# Altium footprint library TI HDC1080.PcbLib: 1 footprints
Each footprint in its own frame and in the unit in brackets; x right, y up, seen from the top. Pads: shape width x height; smd on the part's side, far side on the other; paste and mask are expansions set on the pad; w line width, h text height; cw(c..) or ccw(c..) is an arc to the next point about the centre after c.
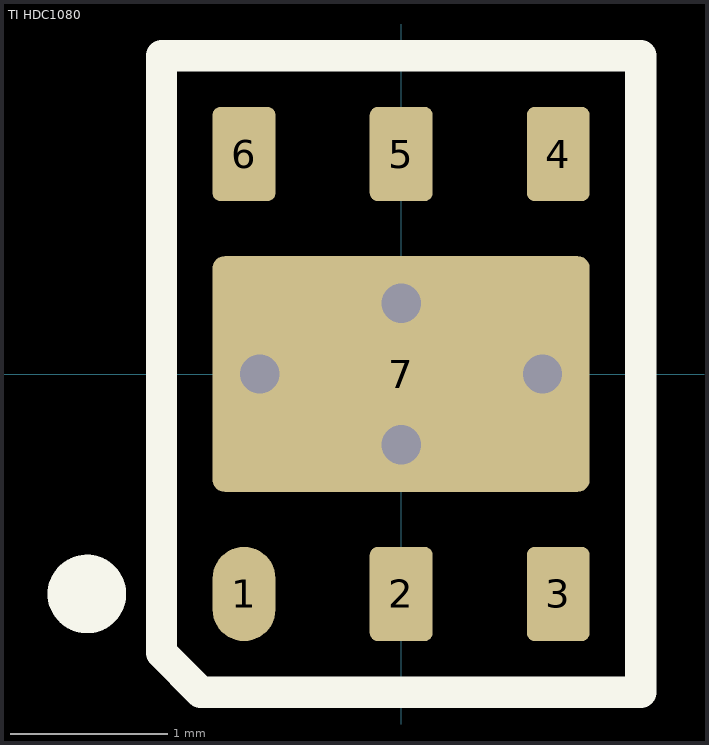
[diagram p0: the footprint, top view; thin cyan lines are the x and y axes]

## TI HDC1080 [mm]
height 0.75
pads (7):
  oval 0.4x0.6 smd: 1(-1,-1.4)
  rrect25% 0.4x0.6 smd: 2(0,-1.4) 3(1,-1.4) 4(1,1.4) 5(0,1.4) 6(-1,1.4)
  rrect10% 2.4x1.5 smd paste-1.2: 7(0,0)
via -0.9,0 diameter 0.6 hole 0.25
via 0.9,0 diameter 0.6 hole 0.25
via 0,0.45 diameter 0.6 hole 0.25
via 0,-0.45 diameter 0.6 hole 0.25
Top Overlay:
  circle w0.25: c-2,-1.4 r0.125
  lines w0.2: -1.525,-1.775 -1.525,2.025 1.525,2.025 1.525,-2.025 -1.275,-2.025 -1.525,-1.775
Top Paste:
  region: 1.16,-0.69 1.16,0.69 0.1,0.69 0.1,-0.69
  region: -0.1,-0.69 -0.1,0.69 -1.16,0.69 -1.16,-0.69
Mechanical 11:
  lines w0.1: -0.5,0 0.5,0 ; 0,-0.5 0,0.5
3D body "DMB0006A.stp": height 0.8, standoff 0, extent -1.5,-1.5 1.5,1.5